# Altium footprint library D6R90F2LFS.PcbLib: 1 footprints
Each footprint in its own frame and in the unit in brackets; x right, y up, seen from the top. Pads: shape width x height; smd on the part's side, far side on the other; paste and mask are expansions set on the pad; w line width, h text height; cw(c..) or ccw(c..) is an arc to the next point about the centre after c.
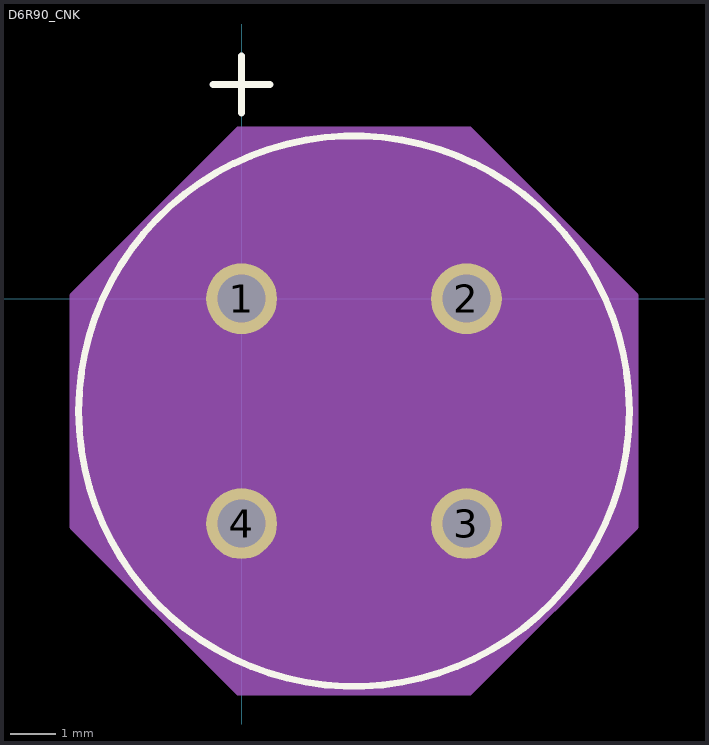
[diagram p0: the footprint, top view; thin cyan lines are the x and y axes]

## D6R90_CNK [mil]
pads (4):
  round 62 / inner round 60 / far side round 62 hole 42 paste-31 mask+0: 1(0,0) 2(196.85,0) 3(196.85,-196.85) 4(0,-196.85)
Top Overlay:
  circle w6: c98.43,-98.42 r241
  lines w6: -25,187.57 25,187.57 ; 0,162.57 0,212.57
Mechanical 13:
  circle w0: c98.43,-98.42 r177
  circle w0: c98.43,-98.42 r236
  lines w1: -25,187.57 25,187.57 ; 0,162.57 0,212.57
Mechanical 15:
  region: -147.57,2.87 -2.87,147.57 199.72,147.57 344.43,2.87 344.43,-199.72 199.72,-344.43 -2.87,-344.43 -147.57,-199.72
  lines w6: -147.57,-199.72 -2.87,-344.43 199.72,-344.43 344.43,-199.72 344.43,2.87 199.72,147.57 -2.87,147.57 -147.57,2.87 -147.57,-199.72